# EAGLE library part LSF0108 (library ICs)
Automotive 8-Channel Multi-Voltage Level Translator
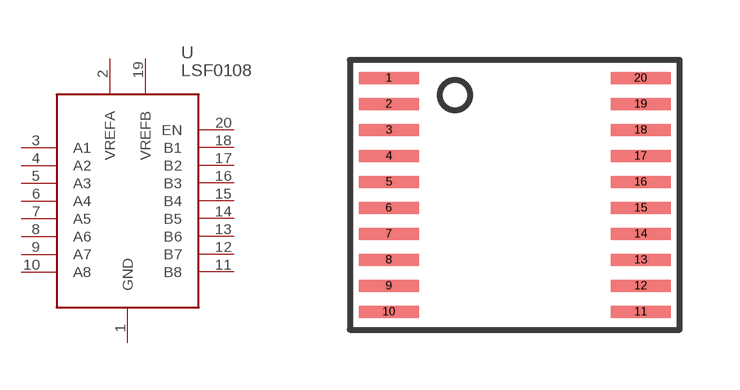
[diagram p164: symbol with the pads of SSOP20-4.5MM; footprint SSOP20-4.5MM]

Designator prefix U

## LSF0108 (FARNELL: 2432140; PRICE_PER: 1.69; VALUE: LSF0108)  [SSOP20-4.5MM]
1  GND
2  VREFA
3  A1
4  A2
5  A3
6  A4
7  A5
8  A6
9  A7
10  A8
11  B8
12  B7
13  B6
14  B5
15  B4
16  B3
17  B2
18  B1
19  VREFB
20  EN

## Footprint SSOP20-4.5MM (pad centres in mm)
smd 1.5 x 0.3: 1 -3.15,2.925; 2 -3.15,2.275; 3 -3.15,1.625; 4 -3.15,0.975; 5 -3.15,0.325; 6 -3.15,-0.325; 7 -3.15,-0.975; 8 -3.15,-1.625; 9 -3.15,-2.275; 10 -3.15,-2.925; 11 3.15,-2.925; 12 3.15,-2.275; 13 3.15,-1.625; 14 3.15,-0.975; 15 3.15,-0.325; 16 3.15,0.325; 17 3.15,0.975; 18 3.15,1.625; 19 3.15,2.275; 20 3.15,2.925